# Altium footprint library EMI-CAGE.PcbLib: 1 footprints
Each footprint in its own frame and in the unit in brackets; x right, y up, seen from the top. Pads: shape width x height; smd on the part's side, far side on the other; paste and mask are expansions set on the pad; w line width, h text height; cw(c..) or ccw(c..) is an arc to the next point about the centre after c.
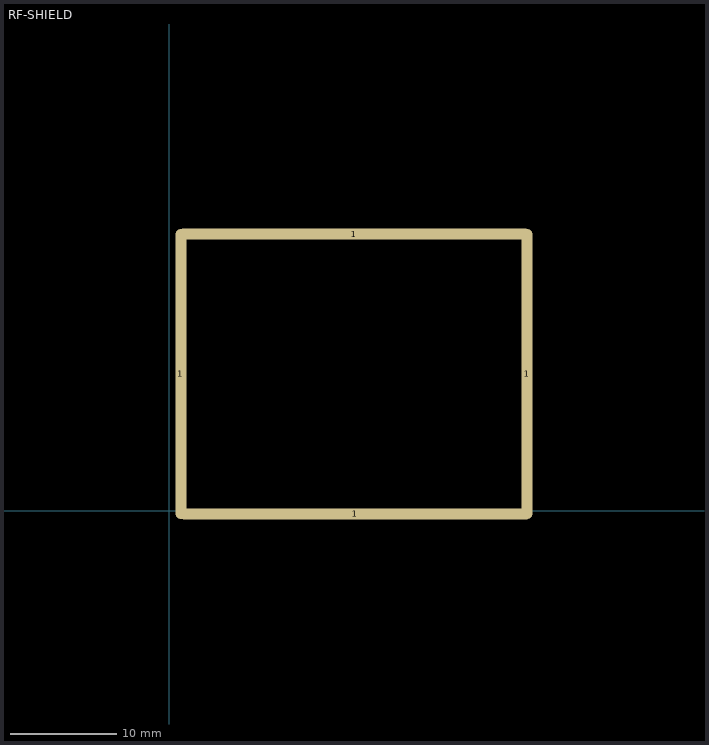
[diagram p0: the footprint, top view; thin cyan lines are the x and y axes]

## RF-SHIELD [mm]
pads (4):
  oval 1.04x27.18 all layers, no hole: 1(1.075,12.825) 1(33.5,12.825)
  oval 33.12x1.04 all layers, no hole: 1(17.325,25.925) 1(17.4,-0.275)